# EAGLE library part CTX210605-R (library Coiltronics_By_element14_Batch_1)
CCFL TRANSFORMER, 20V, 6 W
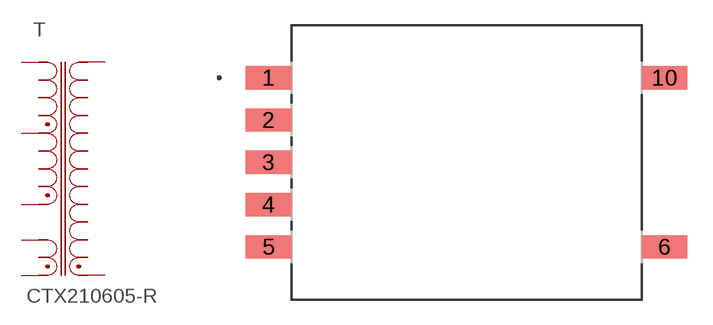
[diagram p0: symbol with the pads of XFMR_CTX210605-R; footprint XFMR_CTX210605-R]

Designator prefix T

## CTX210605-R (INDUCTANCE: 44µH; MPN: CTX210605-R; OC_FARNELL: 1612154; OC_NEWARK: 28K2967; PACKAGE: SMD; SUPPLIER: Coiltronics)  [XFMR_CTX210605-R]
1  1  pas
2  2  pas
3  3  pas
4  4  pas
5  5  pas
6  6  pas
10  10  pas

## Footprint XFMR_CTX210605-R (pad centres in mm)
smd 2.743 x 1.397: 1 -11.887,5.08; 2 -11.887,2.54; 3 -11.887,0; 4 -11.887,-2.54; 5 -11.887,-5.08; 6 11.887,-5.08; 10 11.887,5.08